# Altium footprint library DSO.PcbLib: 26 footprints (part 1 of 2)
Each footprint in its own frame and in the unit in brackets; x right, y up, seen from the top. Pads: shape width x height; smd on the part's side, far side on the other; paste and mask are expansions set on the pad; w line width, h text height; cw(c..) or ccw(c..) is an arc to the next point about the centre after c.
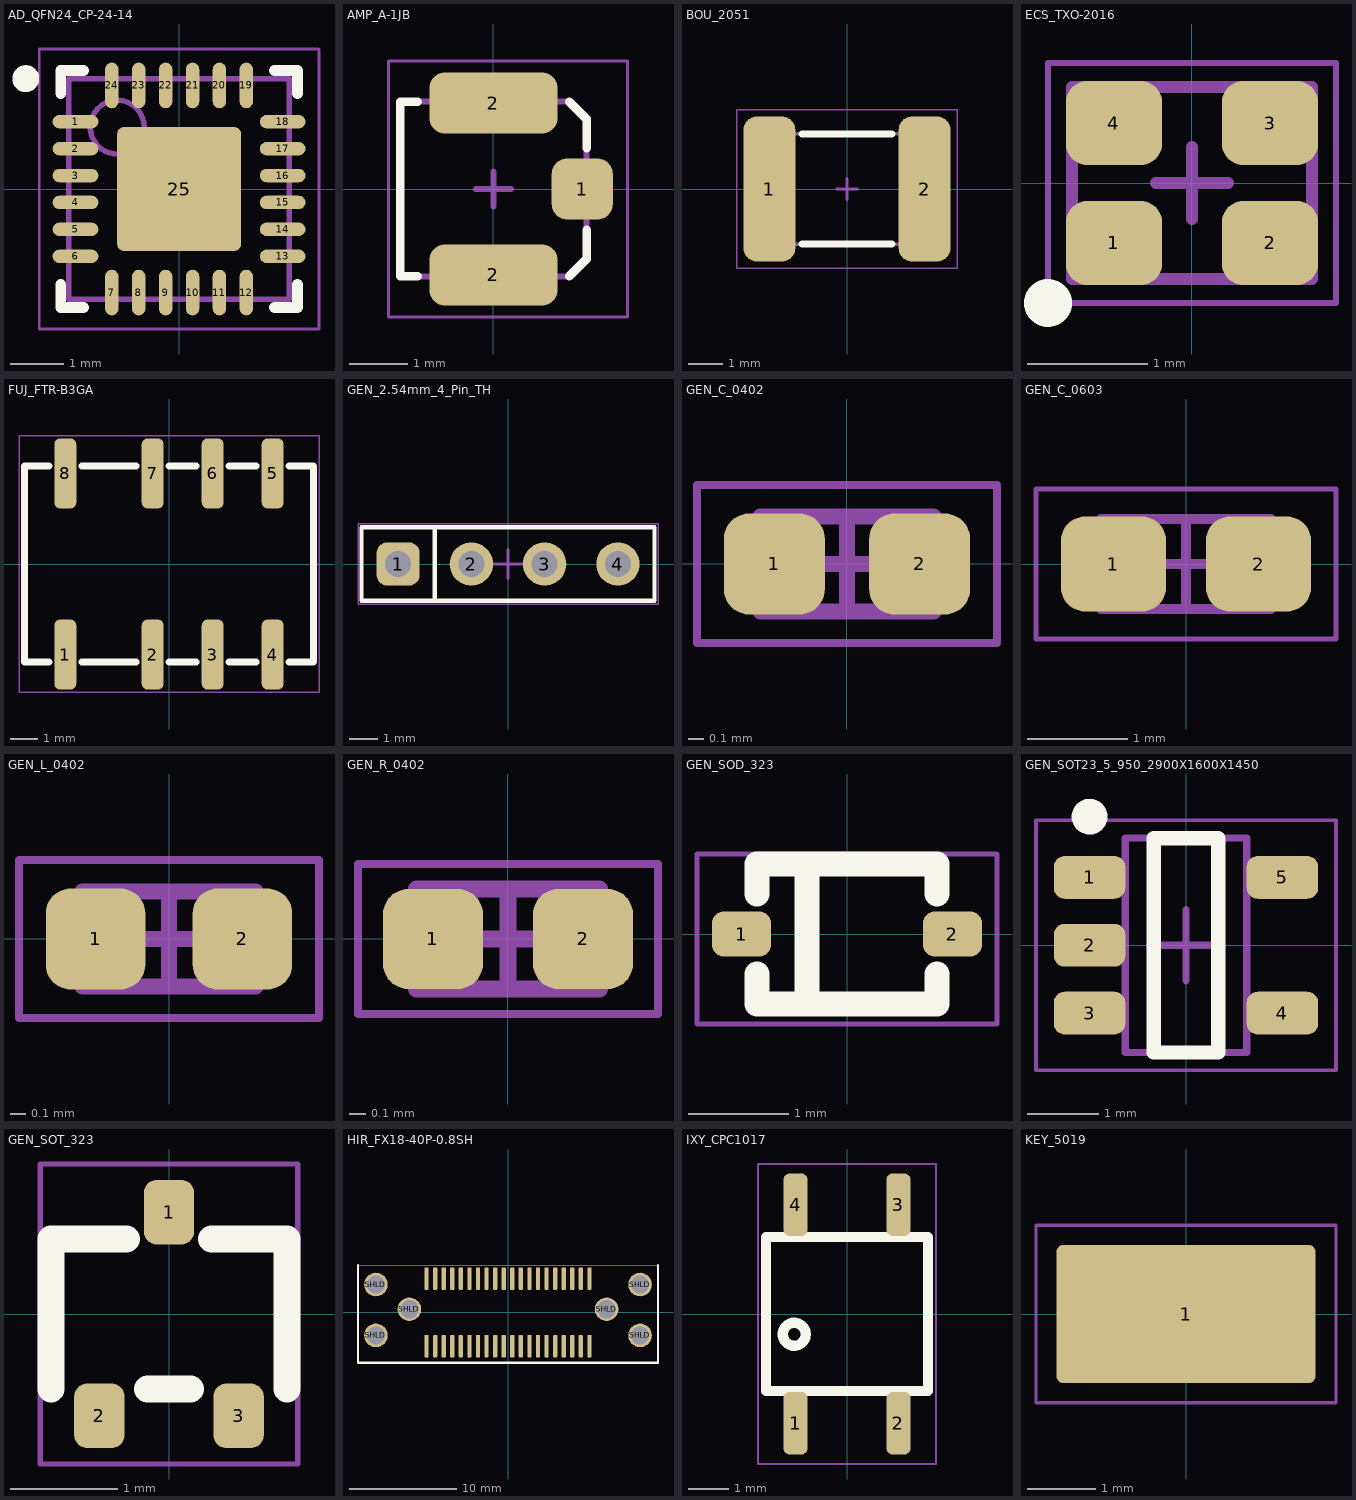
[diagram p0: the footprints below, top view; thin cyan lines are the x and y axes]

## AD_QFN24_CP-24-14 [mm] "QFN, 24-Leads, Body 4.00x4.00mm, Pitch 0.50mm, Thermal Pad 2.30x2.30mm, IPC Medium Density"
height 0.8
pads (25):
  oval 0.85x0.25 smd: 1(-1.925,1.25) 2(-1.925,0.75) 3(-1.925,0.25) 4(-1.925,-0.25) 5(-1.925,-0.75) 6(-1.925,-1.25) 13(1.925,-1.25) 14(1.925,-0.75) 15(1.925,-0.25) 16(1.925,0.25) 17(1.925,0.75) 18(1.925,1.25)
  oval 0.25x0.85 smd: 7(-1.25,-1.925) 8(-0.75,-1.925) 9(-0.25,-1.925) 10(0.25,-1.925) 11(0.75,-1.925) 12(1.25,-1.925) 19(1.25,1.925) 20(0.75,1.925) 21(0.25,1.925) 22(-0.25,1.925) 23(-0.75,1.925) 24(-1.25,1.925)
  rrect10% 2.3x2.3 smd paste-2.3: 25(0,0)
Top Overlay:
  circle w0.25: c-2.85,2.05 r0.125
  lines w0.2: -2.2,-1.775 -2.2,-2.2 -1.775,-2.2 ; -2.2,1.775 -2.2,2.2 -1.775,2.2 ; 1.775,-2.2 2.2,-2.2 2.2,-1.775 ; 1.775,2.2 2.2,2.2 2.2,1.775
Top Paste:
  rectangle: 0.1,0.1 1.1,1.1
  rectangle: -1.1,0.1 -0.1,1.1
  rectangle: -1.1,-1.1 -0.1,-0.1
  rectangle: 0.1,-1.1 1.1,-0.1
Top Courtyard:
  lines w0.05: -2.6,-2.6 2.6,-2.6 2.6,2.6 -2.6,2.6 -2.6,-2.6
  lines w0.1: -0.5,0 0.5,0 ; 0,-0.5 0,0.5
Mechanical 13:
  circle w0.1: c-1.15,1.15 r0.5
  lines w0.1: -2.05,-2.05 2.05,-2.05 2.05,2.05 -2.05,2.05 -2.05,-2.05
3D body "AD_QFN24_CP-24-14_1.step": height 0.8, standoff 0, extent -2.07,-2.07 2.07,2.07

## AMP_A-1JB [mm]
height 1.35
pads (3):
  rrect50% 1.05x1.05 smd: 1(1.525,0)
  rrect50% 2.2x1.05 smd: 2(0,-1.475) 2(0,1.475)
Top Overlay:
  lines w0.15: -1.3,-1.5 -1.6,-1.5 -1.6,1.5 -1.3,1.5 ; 1.3,-1.5 1.6,-1.2 1.6,-0.7 ; 1.3,1.5 1.6,1.2 1.6,0.7
Top Courtyard:
  lines w0.05: -1.8,-2.2 -1.8,2.2 2.3,2.2 2.3,-2.2 -1.8,-2.2
  lines w0.1: -0.3,0 0.3,0 ; 0,-0.3 0,0.3
Mechanical 13:
  lines w0.1: -1.6,-1.5 -1.6,1.5 1.3,1.5 1.6,1.2 1.6,-1.2 1.3,-1.5 -1.6,-1.5
3D body "A-1JB.stp": height 1.25, standoff 0, extent -1.55,-1.5 1.55,1.5

## BOU_2051 [mm]
height 3
pads (2):
  rrect50% 1.5x4.2 smd: 1(-2.25,0) 2(2.25,0)
Top Overlay:
  lines w0.2: -1.3,-1.6 1.3,-1.6 ; -1.3,1.6 1.3,1.6
Top Courtyard:
  lines w0.05: -3.2,-2.3 -3.2,2.3 3.2,2.3 3.2,-2.3 -3.2,-2.3
  lines w0.1: -0.3,0 0.3,0 ; 0,-0.3 0,0.3
Mechanical 13:
  lines w0.1: -2.3,-1.6 -2.3,1.6 2.3,1.6 2.3,-1.6 -2.3,-1.6
3D body "2051-xx-sm.stp": height 2.7, standoff 0, extent -2.25,-1.6 2.25,1.6

## ECS_TXO-2016 [mm]
height 0.8
pads (4):
  rrect50% 0.8x0.7 smd: 1(-0.65,-0.5) 2(0.65,-0.5) 3(0.65,0.5) 4(-0.65,0.5)
Top Overlay:
  circle w0.2: c-1.2,-1 r0.1
Top Courtyard:
  lines w0.05: -1.2,-1 1.2,-1 1.2,1 -1.2,1 -1.2,-1
  lines w0.1: -0.3,0 0.3,0 ; 0,-0.3 0,0.3
Mechanical 13:
  lines w0.1: -1,-0.8 -1,0.8 1,0.8 1,-0.8 -1,-0.8
3D body: height 0.8, standoff 0, extent -1.05,-0.85 1.05,0.85

## FUJ_FTR-B3GA [mm]
height 5.45
pads (8):
  rrect50% 0.8x2.56 smd: 1(-3.8,-3.32) 2(-0.6,-3.32) 3(1.6,-3.32) 4(3.8,-3.32) 5(3.8,3.32) 6(1.6,3.32) 7(-0.6,3.32) 8(-3.8,3.32)
Top Overlay:
  lines w0.254: -4.4,-3.6 -5.3,-3.6 -5.3,3.6 -4.4,3.6 ; -3.2,-3.6 -1.2,-3.6 ; -3.2,3.6 -1.2,3.6 ; 0,-3.6 1,-3.6 ; 0,3.6 1,3.6 ; 2.2,-3.6 3.2,-3.6 ; 2.2,3.6 3.2,3.6 ; 4.4,-3.6 5.3,-3.6 5.3,3.6 4.4,3.6
Top Courtyard:
  lines w0.05: -5.5,-4.7 -5.5,4.7 5.5,4.7 5.5,-4.7 -5.5,-4.7
3D body: height 5.45, standoff 0, extent -5.427,-3.727 5.427,3.727

## GEN_2.54mm_4_Pin_TH [mm]
height 8.54
pads (4):
  rrect50% 1.5x1.5 hole 0.9: 1(-3.81,0)
  round 1.5 hole 0.9: 2(-1.27,0) 3(1.27,0) 4(3.81,0)
Top Overlay:
  lines w0.15: -2.54,-1.27 -2.54,1.27 ; -5.08,-1.27 5.08,-1.27 5.08,1.27 -5.08,1.27 -5.08,-1.27
Top Courtyard:
  lines w0.05: -5.2,-1.4 -5.2,1.4 5.2,1.4 5.2,-1.4 -5.2,-1.4
  lines w0.1: -0.5,0 0.5,0 ; 0,-0.5 0,0.5
Mechanical 13:
  lines w0.1: -2.54,-1.27 -2.54,1.27 ; -5.08,-1.27 -5.08,1.27 5.08,1.27 5.08,-1.27 -5.08,-1.27
3D body "61300411121_Downlaod_STP_61300411121_rev1.stp": height 8.54, standoff -3, extent -5.08,-1.27 5.08,1.27

## GEN_C_0402 [mm] "Chip Capacitor, 0402, IPC Medium Density"
height 0.6
pads (2):
  rrect50% 0.64x0.64 smd: 1(-0.46,0) 2(0.46,0)
Top Courtyard:
  lines w0.05: -0.95,-0.5 0.95,-0.5 0.95,0.5 -0.95,0.5 -0.95,-0.5
  lines w0.1: -0.3,0 0.3,0 ; 0,-0.3 0,0.3
Mechanical 13:
  lines w0.1: -0.55,-0.3 0.55,-0.3 0.55,0.3 -0.55,0.3 -0.55,-0.3
3D body "CAPC1005X06N.step": height 0.6, standoff 0, extent -0.55,-0.3 0.55,0.3

## GEN_C_0603 [mm] "Chip Capacitor, 2-Leads, Body 1.60x0.80mm, IPC Medium Density"
height 0.9
pads (2):
  rrect50% 1.05x0.95 smd: 1(-0.725,0) 2(0.725,0)
Top Courtyard:
  lines w0.05: -1.5,-0.75 -1.5,0.75 1.5,0.75 1.5,-0.75 -1.5,-0.75
  lines w0.1: -0.45,0 0.45,0 ; 0,-0.45 0,0.45
Mechanical 13:
  lines w0.1: -0.85,-0.45 -0.85,0.45 0.85,0.45 0.85,-0.45 -0.85,-0.45
3D body "GEN_C_0603.step": height 0.9, standoff 0, extent -0.85,-0.45 0.85,0.45

## GEN_L_0402 [mm] "Chip Inductor, 2-Leads, Body 1.00x0.50mm, IPC Medium Density"
height 0.45
pads (2):
  rrect50% 0.63x0.64 smd: 1(-0.465,0) 2(0.465,0)
Top Courtyard:
  lines w0.05: -0.95,-0.5 -0.95,0.5 0.95,0.5 0.95,-0.5 -0.95,-0.5
  lines w0.1: -0.3,0 0.3,0 ; 0,-0.3 0,0.3
Mechanical 13:
  lines w0.1: -0.55,-0.3 -0.55,0.3 0.55,0.3 0.55,-0.3 -0.55,-0.3
3D body "GEN_L_0402.step": height 0.45, standoff 0, extent -0.55,-0.3 0.55,0.3

## GEN_R_0402 [mm] "Chip Resistor, 2-Leads, Body 1.00x0.50mm, IPC Medium Density"
height 0.4
pads (2):
  rrect50% 0.6x0.6 smd: 1(-0.45,0) 2(0.45,0)
Top Courtyard:
  lines w0.05: -0.9,-0.45 -0.9,0.45 0.9,0.45 0.9,-0.45 -0.9,-0.45
  lines w0.1: -0.3,0 0.3,0 ; 0,-0.3 0,0.3
Mechanical 13:
  lines w0.1: -0.55,-0.3 -0.55,0.3 0.55,0.3 0.55,-0.3 -0.55,-0.3
3D body "GEN_R_0402.step": height 0.4, standoff 0, extent -0.55,-0.3 0.55,0.3

## GEN_SOD_323 [mm]
height 1.1
pads (2):
  rrect50% 0.59x0.45 smd: 1(-1.055,0) 2(1.055,0)
Top Overlay:
  lines w0.254: -0.9,-0.4 -0.9,-0.7 0.9,-0.7 0.9,-0.4 ; -0.9,0.4 -0.9,0.7 0.9,0.7 0.9,0.4 ; -0.4,-0.7 -0.4,0.7
Top Courtyard:
  lines w0.05: -1.5,-0.9 1.5,-0.9 1.5,0.8 -1.5,0.8 -1.5,-0.9
3D body: height 1.1, standoff 0, extent -1.027,-0.827 1.027,0.827

## GEN_SOT23_5_950_2900X1600X1450 [mm] "SOT23, 5-Leads, Body 2.90x2.80mm, Pitch 0.95mm, IPC Medium Density"
height 1.45
pads (5):
  rrect50% 1x0.6 smd: 1(-1.35,0.95) 2(-1.35,0) 3(-1.35,-0.95) 4(1.35,-0.95) 5(1.35,0.95)
Top Overlay:
  circle w0.25: c-1.35,1.8 r0.125
  lines w0.2: -0.45,-1.5 -0.45,1.5 0.45,1.5 0.45,-1.5 -0.45,-1.5
Top Courtyard:
  lines w0.05: -2.1,-1.75 2.1,-1.75 2.1,1.75 -2.1,1.75 -2.1,-1.75
  lines w0.1: -0.5,0 0.5,0 ; 0,-0.5 0,0.5
Mechanical 13:
  lines w0.1: -0.85,-1.5 0.85,-1.5 0.85,1.5 -0.85,1.5 -0.85,-1.5
3D body "GEN_SOT23_5_950_2900X1600X1450.step": height 1.45, standoff 0, extent -1.5,-1.5 1.5,1.5

## GEN_SOT_323 [mm]
height 1.1
pads (3):
  rrect50% 0.47x0.6 smd: 1(0,0.95) 2(-0.65,-0.95) 3(0.65,-0.95)
Top Overlay:
  lines w0.254: -1.1,-0.7 -1.1,0.7 -0.4,0.7 ; -0.2,-0.7 0.2,-0.7 ; 0.4,0.7 1.1,0.7 1.1,-0.7
Top Courtyard:
  lines w0.05: -1.2,-1.4 1.2,-1.4 1.2,1.4 -1.2,1.4 -1.2,-1.4
3D body: height 1.1, standoff 0, extent -1.227,-0.827 1.227,0.827

## HIR_FX18-40P-0.8SH [mm]
height 9.65
pads (46):
  rrect50% 0.4x2.1 smd: 1(7.6,3.15) 2(6.8,3.15) 3(6,3.15) 4(5.2,3.15) 5(4.4,3.15) 6(3.6,3.15) 7(2.8,3.15) 8(2,3.15) 9(1.2,3.15) 10(0.4,3.15) 11(-0.4,3.15) 12(-1.2,3.15) 13(-2,3.15) 14(-2.8,3.15) 15(-3.6,3.15) 16(-4.4,3.15) 17(-5.2,3.15) 18(-6,3.15) 19(-6.8,3.15) 20(-7.6,3.15) 21(-7.6,-3.15) 22(-6.8,-3.15) 23(-6,-3.15) 24(-5.2,-3.15) 25(-4.4,-3.15) 26(-3.6,-3.15) 27(-2.8,-3.15) 28(-2,-3.15) 29(-1.2,-3.15) 30(-0.4,-3.15) 31(0.4,-3.15) 32(1.2,-3.15) 33(2,-3.15) 34(2.8,-3.15) 35(3.6,-3.15) 36(4.4,-3.15) 37(5.2,-3.15) 38(6,-3.15) 39(6.8,-3.15) 40(7.6,-3.15)
  round 2.2 hole 1.7: SHLD(-12.325,-2.15) SHLD(-12.325,2.6) SHLD(-9.2,0.3) SHLD(9.2,0.3) SHLD(12.325,-2.15) SHLD(12.325,2.6)
Top Overlay:
  lines w0.2: -14,4.4 -14,-4.7 14,-4.7 14,4.4
Top Courtyard:
  lines w0.05: -14,-4.7 14,-4.7 14,4.4 -14,4.4 -14,-4.7
3D body "FX18-40P-0.8SH.stp": height 9.48, standoff -1.37, extent -13.95,-10.1 13.95,3.7

## IXY_CPC1017 [mm]
height 2
pads (4):
  rrect50% 0.6x1.54 smd: 1(-1.27,-2.695) 2(1.27,-2.695) 3(1.27,2.695) 4(-1.27,2.695)
Top Overlay:
  circle w0.254: c-1.3,-0.5 r0.283
  lines w0.254: -2,-1.9 -2,1.9 2,1.9 2,-1.9 -2,-1.9
Top Courtyard:
  lines w0.05: -2.2,-3.7 2.2,-3.7 2.2,3.7 -2.2,3.7 -2.2,-3.7
3D body: height 2, standoff 0, extent -2.127,-2.027 2.127,2.027

## KEY_5019 [mm] "PC TEST POINT MINIATURE"
height 2.29
pads (1):
  rrect10% 3.8x2.03 smd: 1(0,0)
Top Courtyard:
  lines w0.05: -2.2,-1.3 2.2,-1.3 2.2,1.3 -2.2,1.3 -2.2,-1.3
3D body "keystone-PN5019.STEP": height 2.29, standoff 0, extent -1.905,-1 1.905,1.032